# EAGLE library part TPS62120 (library Deegou_IC)
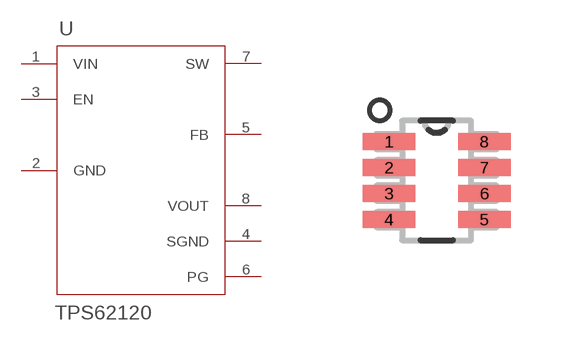
[diagram p185: symbol with the pads of DCN8; footprint DCN8]

Designator prefix U

## TPS62120 (DATASHEETURL: httpwww.ti.comlitgpnTPS62120; FAMILY_NAME: STEPDOWN REGULATOR; GENERIC_PART_NUMBER: TPS62120; INDUSTRY_STD_PKG_TYPE: SOT23; MANUFACTURER: Texas Instruments; MANUFACTURER_PART_NUMBER: tps62120_dcn_8; PACKAGE_DESIGNATOR: DCN; PIN_COUNT: 8; VENDOR: Texas Instruments)  [DCN8]
1  VIN  pwr
2  GND  pwr
3  EN  in
4  SGND  in
5  FB  in
6  PG  out
7  SW  out
8  VOUT  in

## Footprint DCN8 (pad centres in mm)
smd 1.321 x 0.432: 1 -1.194,0.975; 2 -1.194,0.325; 3 -1.194,-0.325; 4 -1.194,-0.975; 5 1.194,-0.975; 6 1.194,-0.325; 7 1.194,0.325; 8 1.194,0.975